# Altium integrated library LMJ316BB7226KLHT.IntLib: 1 symbol
Pins are listed as number, name and electrical type; pins without a type are passive.

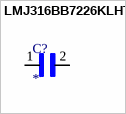
[diagram p0: symbol LMJ316BB7226KLHT]

## LMJ316BB7226KLHT
designator C?
CAPACITOR,CERAMIC,Soft termination,1206,10V,X7R,22 F,10%; MP: LMJ316BB7226KLHT; Package: None; Price: None; Value: *; Availability: Unavailable
footprint CAPC3216X190N
pins: 1, 2